# Altium integrated library Analog Devices Data Converters Analog-to-Digital Converters.IntLib: 2400 symbols (part 214 of 338)
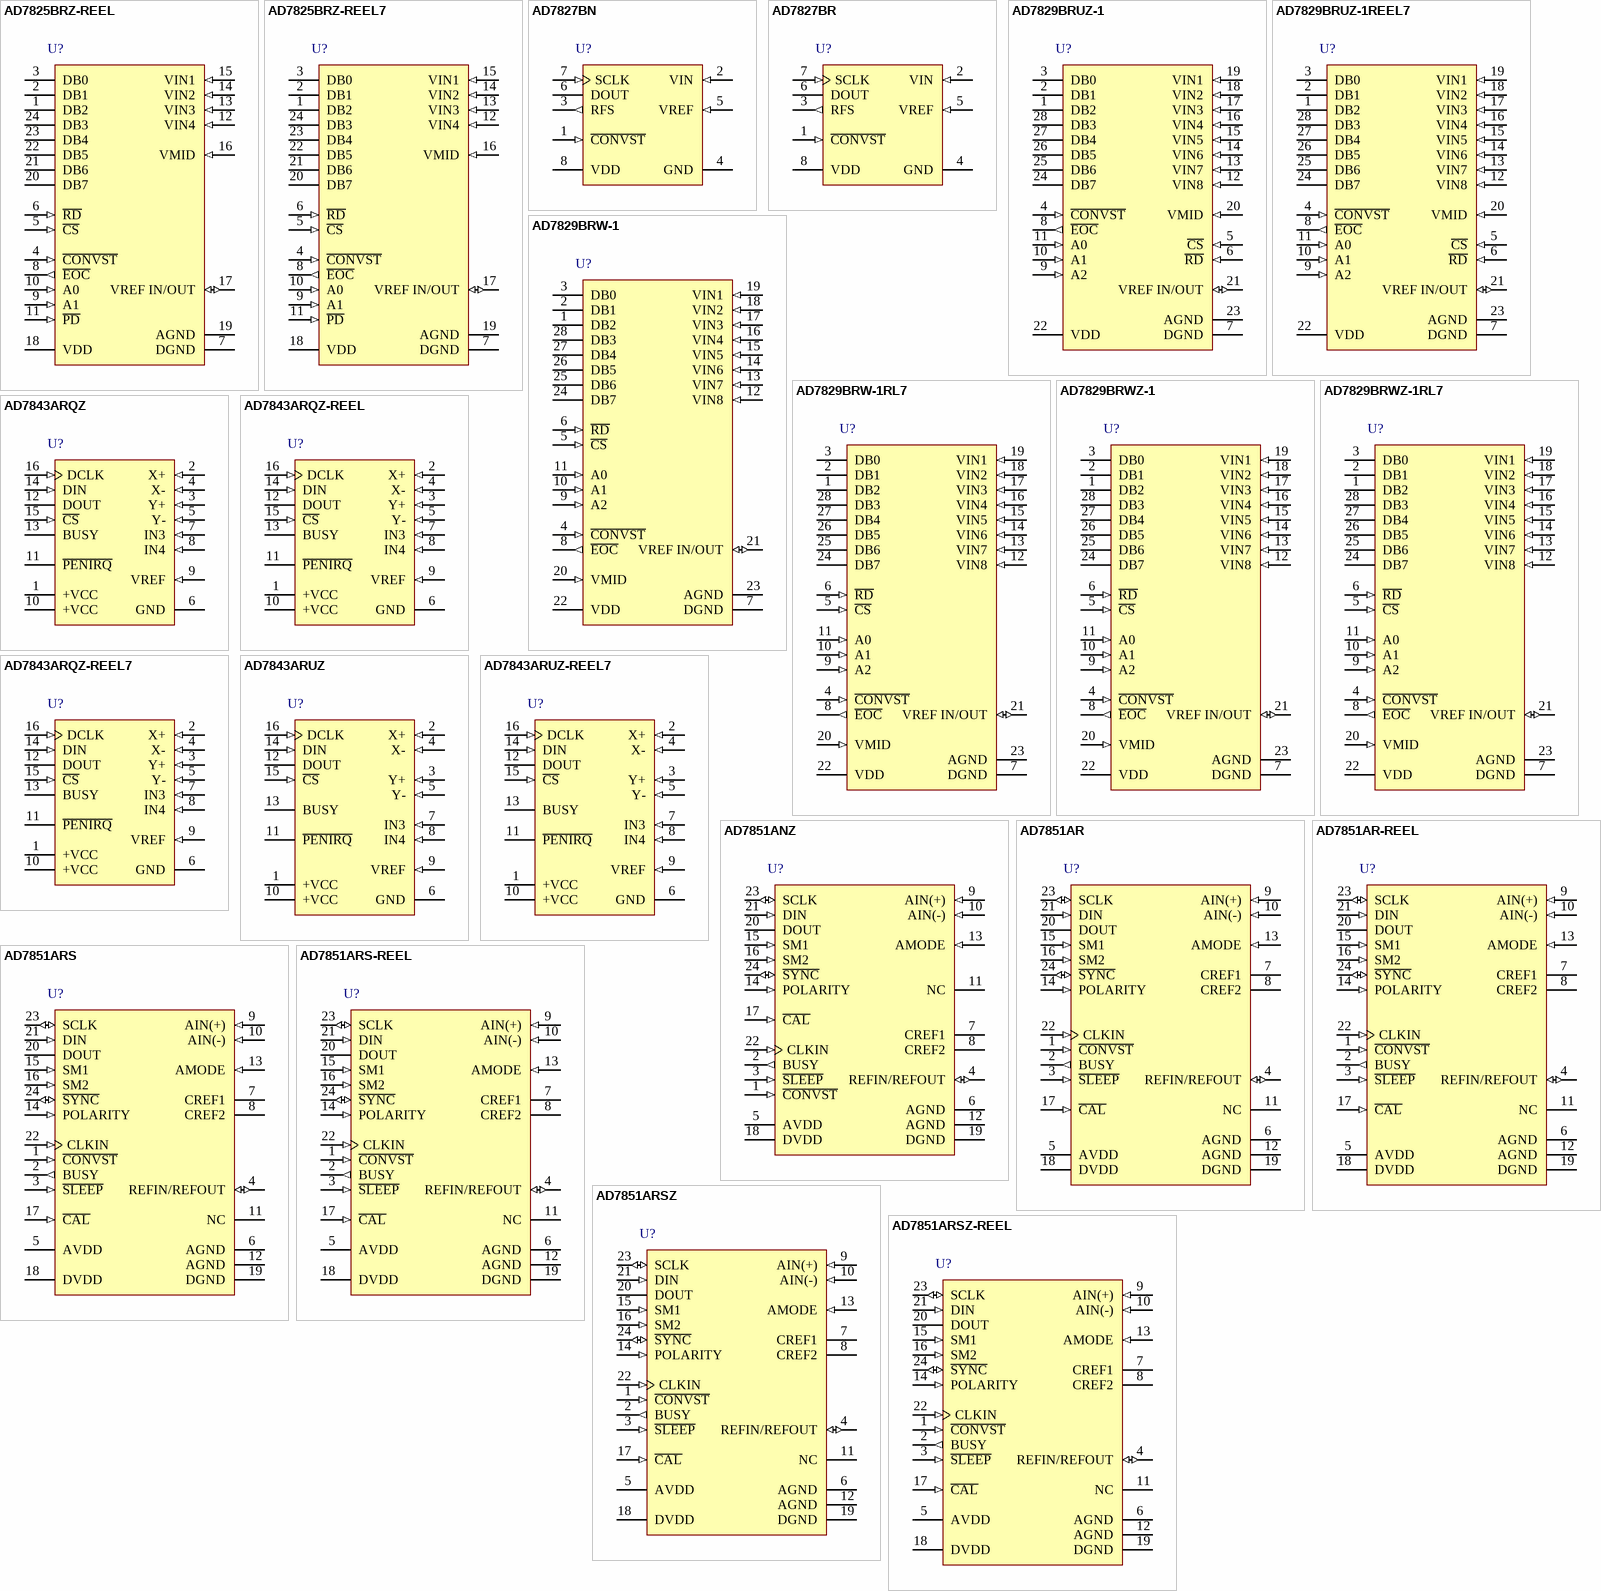
[diagram p372: symbols AD7825BRZ-REEL to AD7851ARSZ-REEL]

## AD7843ARUZ
designator U?
4 Channel 12-Bit Touch Screen Digitizer with Serial Interface, 125KSPS, -40 to +85 degC, RU-16, Pb-Freem, Tube; Part Number: AD7843; Manufacturer: Analog Devices; Resolution (Bits): 12; Channels: 4; Throughput Rate (SPS): 125K; Interface: Ser; DatasheetVersion: Rev.B; PackageVersion: Nov-2002; PackageReference: RU-16; PackageDescription: 16-Lead Thin Shrink Small Outline Package [TSSOP]; RoHS: Y; Packing: Tube; Mounting Technology: Surface Mount; Code_JEDEC: MO-153-AB; ComponentLink1Description: Manufacturer URL; ComponentLink1URL: http://www.analog.com/en/index.html; ComponentLink2Description: Datasheet; ComponentLink2URL: http://www.analog.com/static/imported-files/data_sheets/AD7843.pdf; ComponentLink3Description: Package Specification; ComponentLink3URL: http://www.analog.com/static/imported-files/packages/36244347913743854010197452789RU16.pdf; ComponentLink4Description: Product URL; ComponentLink4URL: http://www.analog.com/en/analog-to-digital-converters/ad-converters/ad7843/products/product.html
footprint RU-16_N (TSOP, 16-Leads, Body 5x4.4mm, Pitch 0.65mm, IPC Medium Density)
footprint RU-16_L (TSOP, 16-Leads, Body 5x4.4mm, Pitch 0.65mm, IPC High Density)
footprint RU-16_M (TSOP, 16-Leads, Body 5x4.4mm, Pitch 0.65mm, IPC Low Density)
pins: 1 +VCC (power) "Power Supply Input. The +VCC range for the AD7843 is from 2.2 V to 5.25 V. Both +VCC pins should be connected directly together.", 2 X+ (in) "X+ Position Input. ADC Input Channel 1.", 3 Y+ (in) "Y+ Position Input. ADC Input Channel 2.", 4 X- (in) "X- Position Input.", 5 Y- (in) "Y- Position Input.", 6 GND (power) "Analog Ground. Ground reference point for all circuitry on the AD7843. All analog input signals and any external reference signal should be referred to this GND voltage.", 7 IN3 (in) "Auxiliary Input 1. ADC Input Channel 3.", 8 IN4 (in) "Auxiliary Input 2. ADC Input Channel 4.", 9 VREF (in) "Reference Input for the AD7843. An external reference must be applied to this input. The voltage range for the external reference is 1.0 V to +VCC. For specified performance, it is 2.5 V.", 10 +VCC (power) "Power Supply Input. The +VCC range for the AD7843 is from 2.2 V to 5.25 V. Both +VCC pins should be connected directly together.", 11 ~{PENIRQ} (oc) "Pen Interrupt. CMOS logic open-drain output (requires 10 k ohm to 100 k ohm pull-up register externally).", 12 DOUT (hiz) "Data Out. Logic Output. The conversion result from the AD7843 is provided on this output as a serial data stream.The bits are clocked out on the falling edge of the DCLK input. This output is high impedance when C\S\ is high.", 13 BUSY (hiz) "BUSY Output. Logic Output. This output is high impedance when C\S\ is high.", 14 DIN (in) "Data In. Logic input. Data to be written to the AD7843 control register is provided on this input and is clocked into the register on the rising edge of DCLK (see the Control Register section).", 15 ~{CS} (in) "Chip Select Input. Active Low Logic Input. This input provides the dual function of initiating conversions on the AD7843 and also enables the serial input/output register.", 16 DCLK (in) "External Clock Input. Logic Input. DCLK provides the serial clock for accessing data from the part. This clock input is also used as the clock source for the AD7843 conversion process."

## AD7843ARUZ-REEL7
designator U?
4 Channel Touch Screen Digitizer with Serial Interface, 125KSPS, -40 to +85 degC, RU-16, Pb-Free, Reel; Part Number: AD7843; Manufacturer: Analog Devices; Resolution (Bits): 12; Channels: 4; Throughput Rate (SPS): 125K; Interface: Ser; DatasheetVersion: Rev.B; PackageVersion: Nov-2002; PackageReference: RU-16; PackageDescription: 16-Lead Thin Shrink Small Outline Package [TSSOP]; RoHS: Y; Packing: Reel; Mounting Technology: Surface Mount; Code_JEDEC: MO-153-AB; ComponentLink1Description: Manufacturer URL; ComponentLink1URL: http://www.analog.com/en/index.html; ComponentLink2Description: Datasheet; ComponentLink2URL: http://www.analog.com/static/imported-files/data_sheets/AD7843.pdf; ComponentLink3Description: Package Specification; ComponentLink3URL: http://www.analog.com/static/imported-files/packages/36244347913743854010197452789RU16.pdf; ComponentLink4Description: Product URL; ComponentLink4URL: http://www.analog.com/en/analog-to-digital-converters/ad-converters/ad7843/products/product.html
footprint RU-16_N (TSOP, 16-Leads, Body 5x4.4mm, Pitch 0.65mm, IPC Medium Density)
footprint RU-16_L (TSOP, 16-Leads, Body 5x4.4mm, Pitch 0.65mm, IPC High Density)
footprint RU-16_M (TSOP, 16-Leads, Body 5x4.4mm, Pitch 0.65mm, IPC Low Density)
pins: 1 +VCC (power) "Power Supply Input. The +VCC range for the AD7843 is from 2.2 V to 5.25 V. Both +VCC pins should be connected directly together.", 2 X+ (in) "X+ Position Input. ADC Input Channel 1.", 3 Y+ (in) "Y+ Position Input. ADC Input Channel 2.", 4 X- (in) "X- Position Input.", 5 Y- (in) "Y- Position Input.", 6 GND (power) "Analog Ground. Ground reference point for all circuitry on the AD7843. All analog input signals and any external reference signal should be referred to this GND voltage.", 7 IN3 (in) "Auxiliary Input 1. ADC Input Channel 3.", 8 IN4 (in) "Auxiliary Input 2. ADC Input Channel 4.", 9 VREF (in) "Reference Input for the AD7843. An external reference must be applied to this input. The voltage range for the external reference is 1.0 V to +VCC. For specified performance, it is 2.5 V.", 10 +VCC (power) "Power Supply Input. The +VCC range for the AD7843 is from 2.2 V to 5.25 V. Both +VCC pins should be connected directly together.", 11 ~{PENIRQ} (oc) "Pen Interrupt. CMOS logic open-drain output (requires 10 k ohm to 100 k ohm pull-up register externally).", 12 DOUT (hiz) "Data Out. Logic Output. The conversion result from the AD7843 is provided on this output as a serial data stream.The bits are clocked out on the falling edge of the DCLK input. This output is high impedance when C\S\ is high.", 13 BUSY (hiz) "BUSY Output. Logic Output. This output is high impedance when C\S\ is high.", 14 DIN (in) "Data In. Logic input. Data to be written to the AD7843 control register is provided on this input and is clocked into the register on the rising edge of DCLK (see the Control Register section).", 15 ~{CS} (in) "Chip Select Input. Active Low Logic Input. This input provides the dual function of initiating conversions on the AD7843 and also enables the serial input/output register.", 16 DCLK (in) "External Clock Input. Logic Input. DCLK provides the serial clock for accessing data from the part. This clock input is also used as the clock source for the AD7843 conversion process."